# Altium footprint library PCB - SWITCH - C&K JS202011SCQN.PcbLib: 1 footprints
Each footprint in its own frame and in the unit in brackets; x right, y up, seen from the top. Pads: shape width x height; smd on the part's side, far side on the other; paste and mask are expansions set on the pad; w line width, h text height; cw(c..) or ccw(c..) is an arc to the next point about the centre after c.
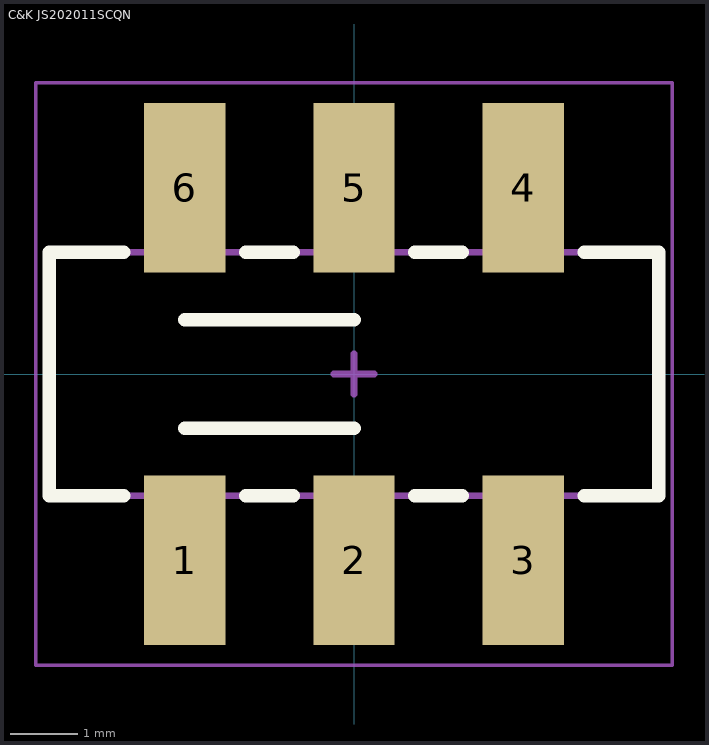
[diagram p0: the footprint, top view; thin cyan lines are the x and y axes]

## C&K JS202011SCQN [mm] "Slide Switch, 6-leads, body 9x3.6mm, C&K JS202011SCQN"
height 5.5
pads (6):
  rect 1.2x2.5 smd mask+0.1: 1(-2.5,-2.75) 2(0,-2.75) 3(2.5,-2.75) 4(2.5,2.75) 5(0,2.75) 6(-2.5,2.75)
Top Overlay:
  lines w0.2: -3.4,-1.8 -4.5,-1.8 -4.5,1.8 -3.4,1.8 ; -2.5,-0.8 0,-0.8 ; -2.5,0.8 0,0.8 ; -1.6,-1.8 -0.9,-1.8 ; -1.6,1.8 -0.9,1.8 ; 0.9,-1.8 1.6,-1.8 ; 0.9,1.8 1.6,1.8 ; 3.4,-1.8 4.5,-1.8 4.5,1.8 3.4,1.8
Mechanical 13:
  lines w0.1: -4.5,-1.8 -4.5,1.8 4.5,1.8 4.5,-1.8 -4.5,-1.8
Mechanical 15 (Mech15):
  lines w0.05: -4.7,-4.3 -4.7,4.3 4.7,4.3 4.7,-4.3 -4.7,-4.3
  lines w0.1: -0.3,0 0.3,0 ; 0,-0.3 0,0.3
3D body "C&K - JS.step": height 5.5, standoff 0, extent -4.5,-3.75 4.5,3.75